# EAGLE library part 555-28027 (library mita-akiba)
Parallax Passive Infra-Red Sensor 800 yens @ Akizuki 2012.06
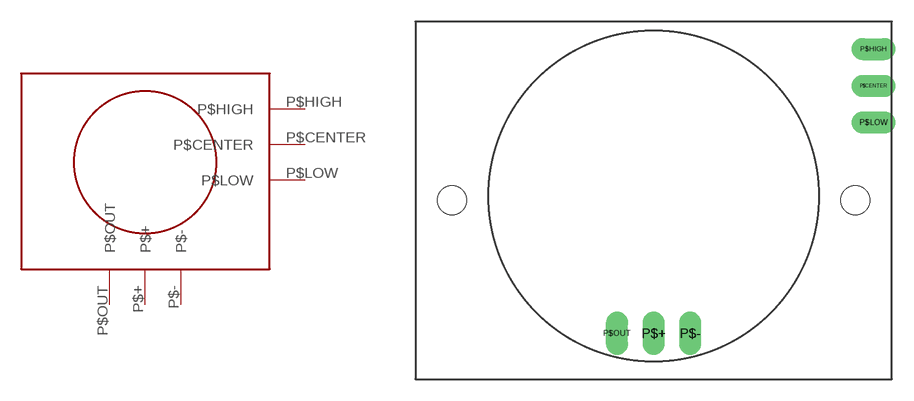
[diagram p62: symbol with the pads of 555-28027; footprint 555-28027]

Designator prefix -

## 555-28027  [555-28027]
P$+  P$+
P$-  P$-
P$CENTER  P$CENTER
P$HIGH  P$HIGH
P$LOW  P$LOW
P$OUT  P$OUT

## Footprint 555-28027 (pad centres in mm)
drill 1 long: P$+ 0,0; P$- 2.54,0; P$CENTER 15.24,17.145; P$HIGH 15.24,19.685; P$LOW 15.24,14.605; P$OUT -2.54,0
hole 2 at -13.97,9.207
hole 2 at 13.97,9.207